# Altium footprint library GL5506.PcbLib: 1 footprints
Each footprint in its own frame and in the unit in brackets; x right, y up, seen from the top. Pads: shape width x height; smd on the part's side, far side on the other; paste and mask are expansions set on the pad; w line width, h text height; cw(c..) or ccw(c..) is an arc to the next point about the centre after c.
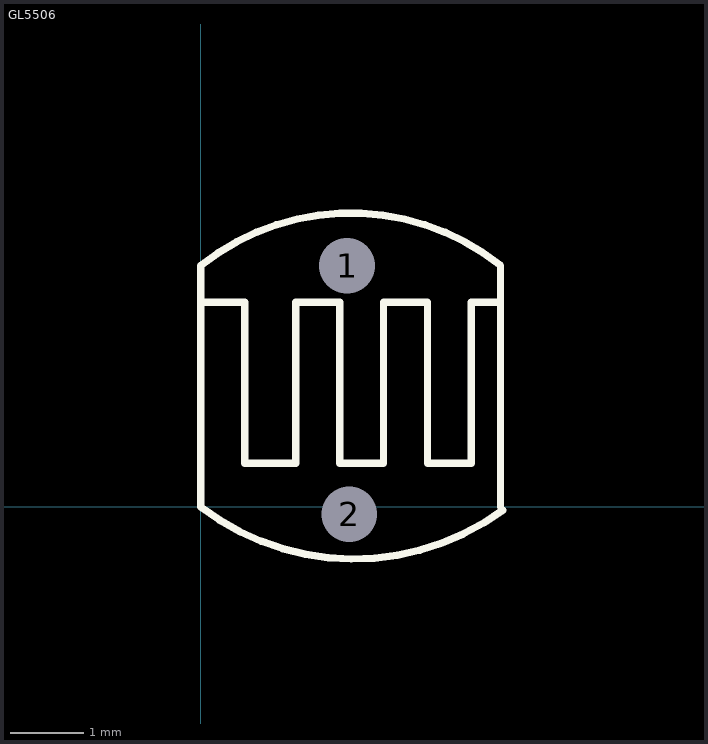
[diagram p0: the footprint, top view; thin cyan lines are the x and y axes]

## GL5506 [mm]
pads (2):
  round 0.6 hole 0.762 mask+0.102: 1(2,3.3) 2(2.032,-0.1)
Top Overlay:
  lines w0.1: 0,2.8 0.6,2.8 0.6,0.6 ; 4.1,0 4.1,3.302 ccw(c2.05,0.744) 0,3.302 0,0 ccw(c2.095,2.73) 4.132,-0.044 ; 4.1,2.8 3.7,2.8 3.7,0.6 3.1,0.6 3.1,2.8 2.5,2.8 2.5,0.6 1.9,0.6 1.9,2.8 1.3,2.8 1.3,0.6 0.6,0.6 ; 0.6,0.6 0.6,0.6